# Altium footprint library 10067847-001RLF.PcbLib: 1 footprints
Each footprint in its own frame and in the unit in brackets; x right, y up, seen from the top. Pads: shape width x height; smd on the part's side, far side on the other; paste and mask are expansions set on the pad; w line width, h text height; cw(c..) or ccw(c..) is an arc to the next point about the centre after c.
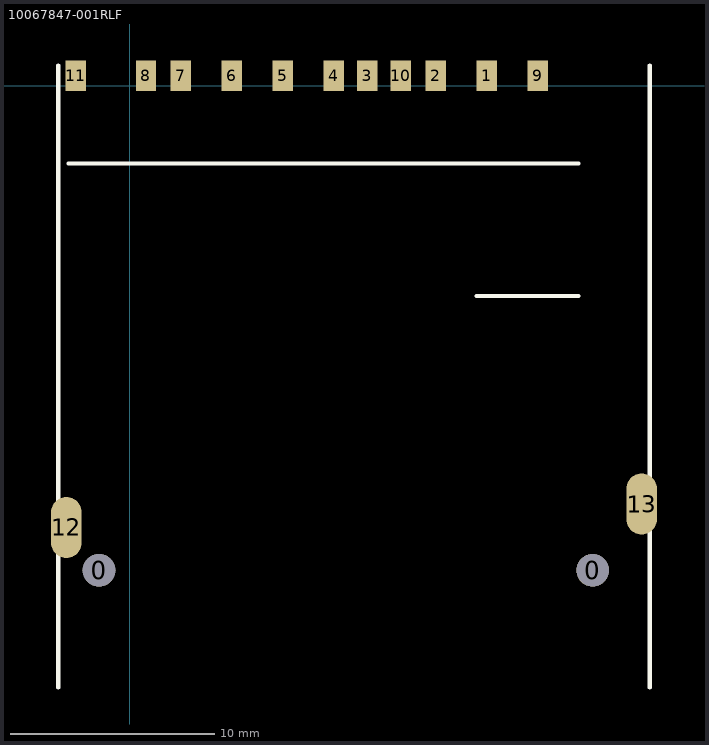
[diagram p0: the footprint, top view; thin cyan lines are the x and y axes]

## 10067847-001RLF [mm]
height 1.8
pads (15):
  round 1.6 hole 1.6 unplated: 0(-1.5,-23.75) 0(22.7,-23.75)
  rect 1x1.5 smd: 1(17.5,0.5) 2(15,0.5) 3(11.65,0.5) 4(10,0.5) 5(7.5,0.5) 6(5,0.5) 7(2.5,0.5) 8(0.8,0.5) 9(20,0.5) 10(13.3,0.5) 11(-2.65,0.5)
  oval 1.5x3 smd: 12(-3.1,-21.65) 13(25.1,-20.5)
Top Overlay:
  lines w0.2: -3.5,-29.5 -3.5,1 ; -3,-3.8 22,-3.8 ; 17,-10.3 22,-10.3 ; 25.5,-29.5 25.5,1
3D body: height 2.9, standoff -0.7, extent -3.225,-29.25 25.225,1